# Altium schematic symbol library TPS65131RGERG4.SchLib: 1 symbol
Pins are listed as number, name and electrical type; pins without a type are passive.

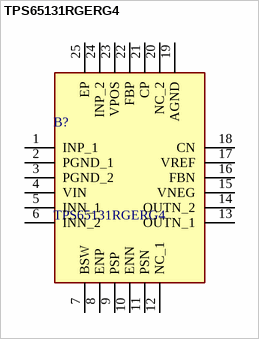
[diagram p0: symbol TPS65131RGERG4]

## TPS65131RGERG4
designator B?
Conv DC-DC 2.7V to 5.5V Inv/Step Up Dual-Out -15V to -2V/3.2V to 15V 1.95A 24-Pin VQFN EP T/R; Manufacturer_Name: Texas Instruments; Geometry.Height: 1mm; Mouser Part Number: 595-TPS65131RGERG4; Mouser Price/Stock: https://www.mouser.co.uk/ProductDetail/Texas-Instruments/TPS65131RGERG4?qs=Gse6rAGbi789eahqaFddAw%3D%3D; Manufacturer_Part_Number: TPS65131RGERG4; Datasheet Link: *
footprint QFN50P400X400X100-25N-D
pins: 1 INP_1, 2 PGND_1, 3 PGND_2, 4 VIN, 5 INN_1, 6 INN_2, 7 BSW, 8 ENP, 9 PSP, 10 ENN, 11 PSN, 12 NC_1, 13 OUTN_1, 14 OUTN_2, 15 VNEG, 16 FBN, 17 VREF, 18 CN, 19 AGND, 20 NC_2, 21 CP, 22 FBP, 23 VPOS, 24 INP_2, 25 EP